# EAGLE library part 691508110306 (library Eagle_WR-TBL+Rising+Cage+Clamp_rev20a)
WR-TBL Serie 5081 - 3.50 mm Horizontal entry SMT Pressure Clamp KIND PROPERTIES Pitch 3.5 mm MATERIAL PROPERTIES Insulator Material LCP Insulator Flammability Rating UL94 V-0 Insulator Color Black Contact Material Brass Contact Plating Copper over Zinc Terminal Screw Material Steel Terminal Screw Plating Zinc Wire Guard Material Brass GENERAL INFORMATION Operating Temperature -40 up to +130 °C Compliance RoHS ELECTRICAL PROPERTIES IR UL 10 A Working Voltage [UL] 300 V (AC) Withstanding Voltage [UL] 1600 V (AC) Withstanding Voltage [cULus] 1600 V (AC) Contact Resistance [UL] 20 mΩ Contact Resistance [cULus] 20 mΩ MECHANICAL PROPERTIES Wire Strip Length 4 up to 5 (mm) Screw M2 Solid Wire Section (AWG) 30 to 16 (AWG) Solid Wire Section (Metric) 0.05 to 1.31 (mm²) Stranded Wire Section (AWG) 30 to 16 (AWG) Stranded Wire Section (Metric) 0.05 to 1.31 (mm²) CERTIFICATION cULus Approval E315414 UL Approval E315414 PACKAGING PROPERTIES Packaging Tape and Reel with Cap <https://katalog.we-online.com/media/images/v2/o58319v209%20Family_WR-TBL_Serie_5081_6915081103xx.jpg> Details see: https://katalog.we-online.com/en/em/TBL_3_50_5081_6915081103XX Updated by Ella Wu 2019-11-12 2019(C) Wurth Elektronik
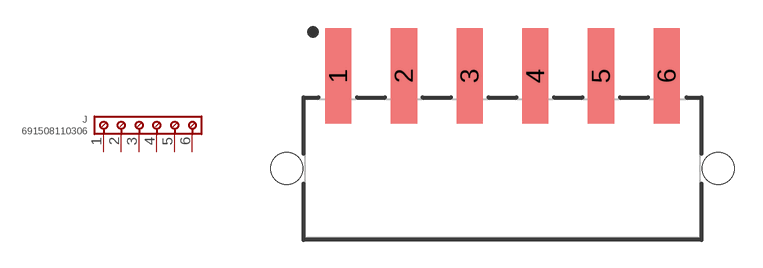
[diagram p82: symbol with the pads of 691508110306; footprint 691508110306]

Designator prefix J

## 691508110306 (DATASHEET-URL: https://www.we-online.com/redexpert/spec/691508110306?ae; IR-UL: 10A; MOUNT: THT; PART-NUMBER: 691508110306; PINS: 6; PITCH: 3.5mm; TYPE: Horizontal; WIRE: 30 to 16 (AWG) 0.05 to 1.31 (mm²); WORKING-VOLTAGE-UL: 300V (AC))  [691508110306]
1  1  pas
2  2  pas
3  3  pas
4  4  pas
5  5  pas
6  6  pas

## Footprint 691508110306 (pad centres in mm)
WR-TBL Serie 5081 - 3.50 mm Horizontal entry SMT Pressure Clamp Max Height =12.2mm , Pitch 3.5mm , 6 Pins
smd 1.4 x 5.1: 1 -8.75,4.95; 2 -5.25,4.95; 3 -1.75,4.95; 4 1.75,4.95; 5 5.25,4.95; 6 8.75,4.95
hole 1.7 at -11.5,0
hole 1.7 at 11.5,0